# Altium footprint library Radial_16x25mm.PcbLib: 1 footprints
Each footprint in its own frame and in the unit in brackets; x right, y up, seen from the top. Pads: shape width x height; smd on the part's side, far side on the other; paste and mask are expansions set on the pad; w line width, h text height; cw(c..) or ccw(c..) is an arc to the next point about the centre after c.
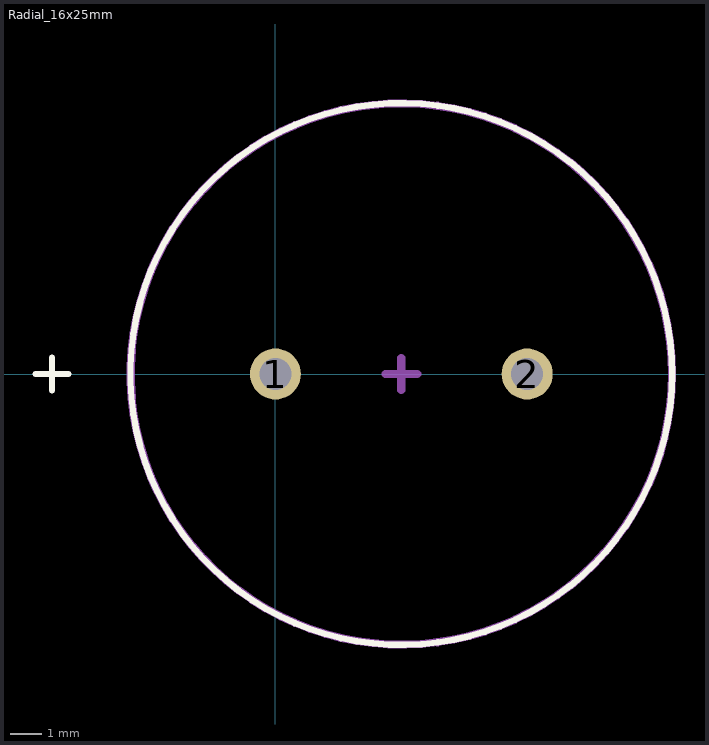
[diagram p0: the footprint, top view; thin cyan lines are the x and y axes]

## Radial_16x25mm [mm]
pads (2):
  round 1.6 / inner round 1 / far side round 1.3 hole 1 mask+0.051: 1(0,0) 2(7.9,0)
Top Overlay:
  circle w0.2: c3.95,0 r8.5
  lines w0.2: -7.518,0 -6.502,0 ; -7.01,-0.508 -7.01,0.508
Mechanical 13:
  circle w0.254: c3.95,0 r8.493
Mechanical 15:
  lines w0.254: 3.45,0 3.95,0 ; 3.95,-0.5 3.95,0 ; 3.95,0.5 3.95,0 ; 4.45,0 3.95,0
3D body "Radial_16x25mm.stp": height 25.01, standoff -3, extent -4.01,-7.747 12,8.247